# Altium schematic symbol library EE16-18V.SchLib: 1 symbol
Pins are listed as number, name and electrical type; pins without a type are passive.

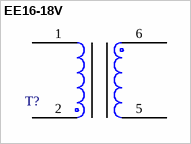
[diagram p0: symbol EE16-18V]

## EE16-18V
designator T?  (value not drawn)
footprint EE16-18V
pins: 1, 2, 5, 6